# Altium footprint library 2440PCBV5_20140403.PcbLib: 142 footprints (part 5 of 9)
Each footprint in its own frame and in the unit in brackets; x right, y up, seen from the top. Pads: shape width x height; smd on the part's side, far side on the other; paste and mask are expansions set on the pad; w line width, h text height; cw(c..) or ccw(c..) is an arc to the next point about the centre after c.
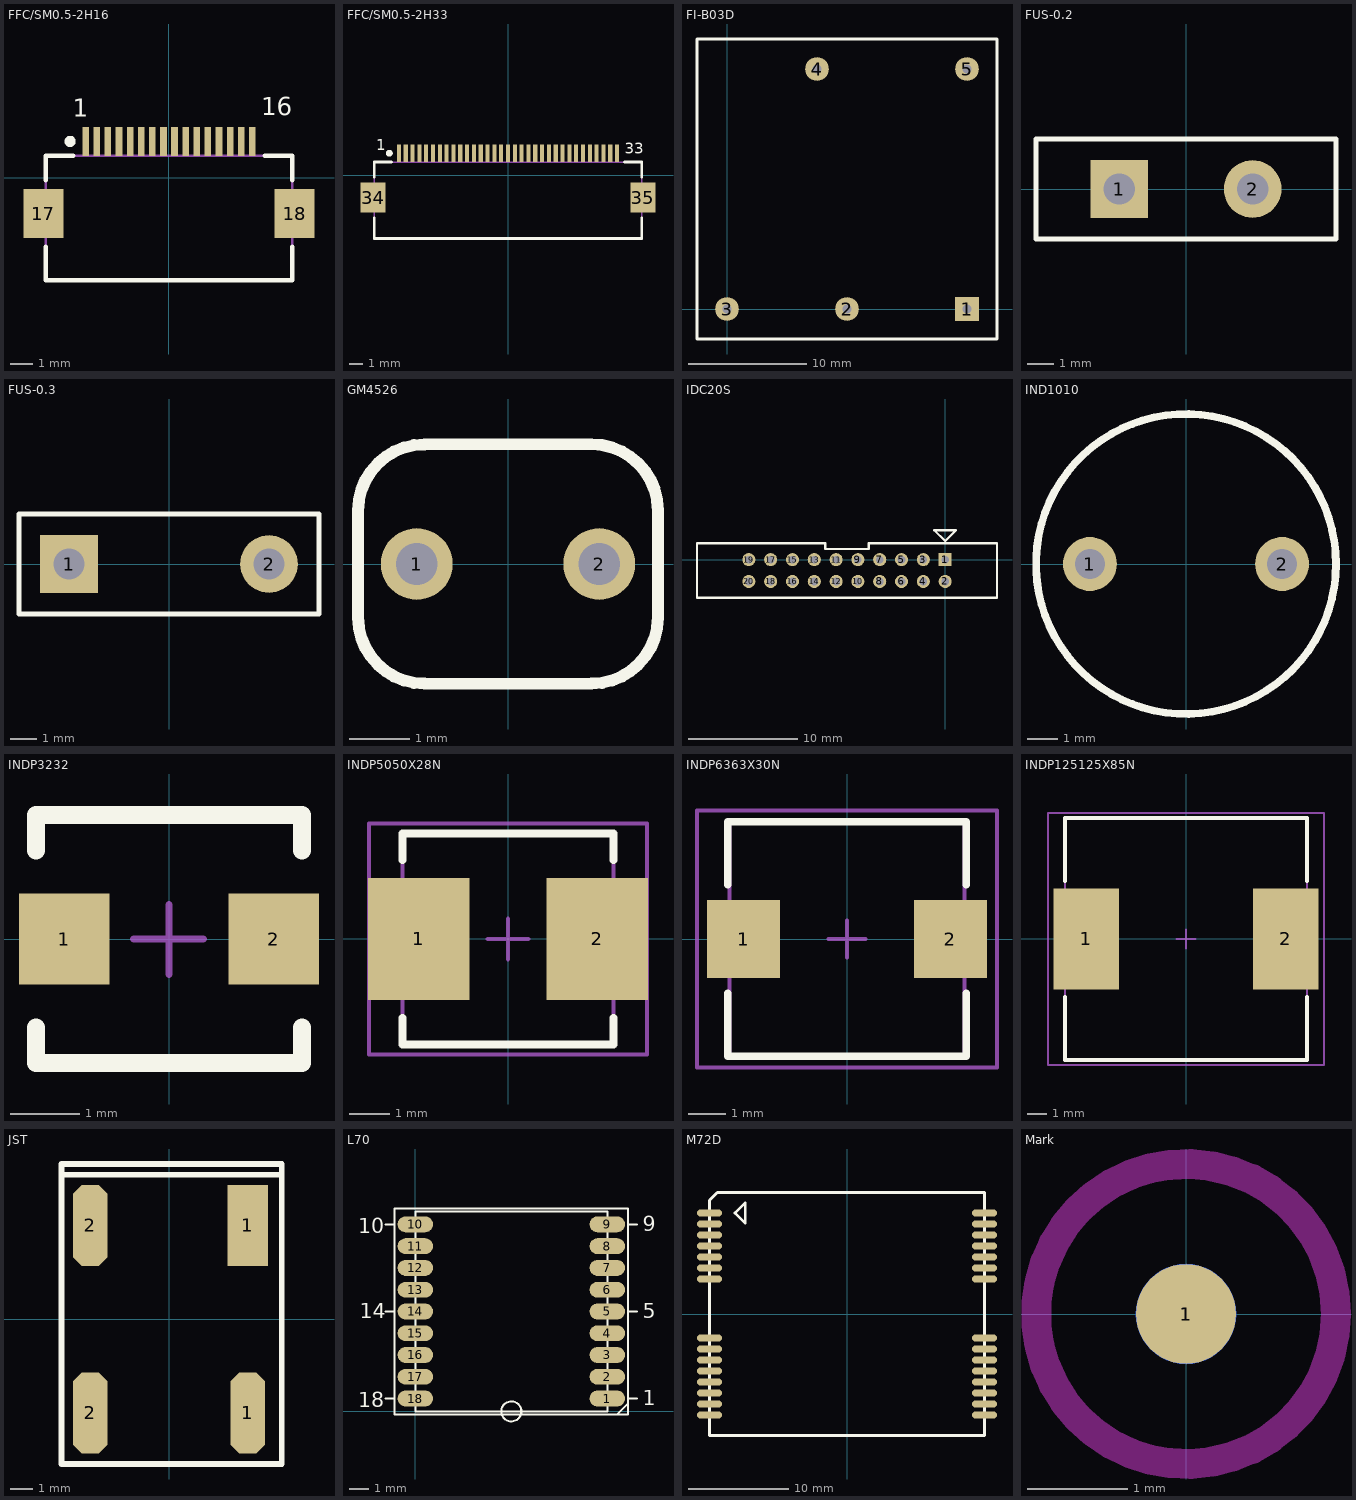
[diagram p4: the footprints below, top view; thin cyan lines are the x and y axes]

## FFC/SM0.5-2H16 [mm]
height 2
pads (18):
  rect 0.3x1.3 smd: 1(-3.75,1.625) 2(-3.25,1.625) 3(-2.75,1.625) 4(-2.25,1.625) 5(-1.75,1.625) 6(-1.25,1.625) 7(-0.75,1.625) 8(-0.25,1.625) 9(0.25,1.625) 10(0.75,1.625) 11(1.25,1.625) 12(1.75,1.625) 13(2.25,1.625) 14(2.75,1.625) 15(3.25,1.625) 16(3.75,1.625)
  rect 1.8x2.2 smd: 17(-5.65,-1.625) 18(5.65,-1.625)
Top Overlay:
  circle w0.25: c-4.45,1.625 r0.125
  lines w0.2: -5.55,-3.125 -5.55,-4.625 5.55,-4.625 5.55,-3.125 ; -5.55,-0.125 -5.55,0.975 -4.3,0.975 ; 4.3,0.975 5.55,0.975 5.55,-0.125
  text "16" at 4.154,2.79 h0.8
  text "1" at -4.329,2.739 h0.8
Mechanical 13:
  lines w0.1: -5.55,-4.625 -5.55,0.975 5.55,0.975 5.55,-4.625 -5.55,-4.625
3D body: height 2, standoff 0, extent -5.55,-4.625 5.55,0.975

## FFC/SM0.5-2H33 [mm]
height 2
pads (35):
  rect 0.3x1.3 smd: 1(-8,1.625) 2(-7.5,1.625) 3(-7,1.625) 4(-6.5,1.625) 5(-6,1.625) 6(-5.5,1.625) 7(-5,1.625) 8(-4.5,1.625) 9(-4,1.625) 10(-3.5,1.625) 11(-3,1.625) 12(-2.5,1.625) 13(-2,1.625) 14(-1.5,1.625) 15(-1,1.625) 16(-0.5,1.625) 17(0,1.625) 18(0.5,1.625) 19(1,1.625) 20(1.5,1.625) 21(2,1.625) 22(2.5,1.625) 23(3,1.625) 24(3.5,1.625) 25(4,1.625) 26(4.5,1.625) 27(5,1.625) 28(5.5,1.625) 29(6,1.625) 30(6.5,1.625) 31(7,1.625) 32(7.5,1.625) 33(8,1.625)
  rect 1.8x2.2 smd: 34(-9.9,-1.625) 35(9.9,-1.625)
Top Overlay:
  circle w0.25: c-8.7,1.625 r0.125
  lines w0.2: -9.8,-3.125 -9.8,-4.625 9.8,-4.625 9.8,-3.125 ; -9.8,-0.125 -9.8,0.975 -8.55,0.975 ; 8.55,0.975 9.8,0.975 9.8,-0.125
  text "33" at 8.568,1.571 h0.8
  text "1" at -9.643,1.825 h0.8
Mechanical 13:
  lines w0.1: -9.8,-4.625 -9.8,0.975 9.8,0.975 9.8,-4.625 -9.8,-4.625
3D body: height 2, standoff 0, extent -9.8,-4.625 9.8,0.975

## FI-B03D [mm]
height 0.305
pads (5):
  rect 2x2 hole 0.762: 1(20.32,0)
  round 2 hole 0.762: 2(10.16,0) 3(0,0) 4(7.62,20.32) 5(20.32,20.32)
Top Overlay:
  lines w0.254: -2.54,-2.54 22.86,-2.54 22.86,22.86 -2.54,22.86 -2.54,-2.54

## FUS-0.2 [mm]
pads (2):
  rect 2.2x2.2 hole 1.2: 1(-2.54,0)
  round 2.2 hole 1.2: 2(2.54,0)
Top Overlay:
  lines w0.2: -5.715,-1.905 -5.715,1.905 5.715,1.905 5.715,-1.905 -5.715,-1.905

## FUS-0.3 [mm]
pads (2):
  rect 2.2x2.2 hole 1.2: 1(-3.81,0)
  round 2.2 hole 1.2: 2(3.81,0)
Top Overlay:
  lines w0.2: -5.715,-1.905 -5.715,1.905 5.715,1.905 5.715,-1.905 -5.715,-1.905

## GM4526 [mm]
pads (2):
  round 1.2 hole 0.7: 1(-1.524,0) 2(1.524,0)
Top Overlay:
  lines w0.2: -1.397,-2 1.397,-2 ; -1.397,-1.997 cw(c-1.397,-0.889) -2.505,-0.889 -2.505,0.889 cw(c-1.397,0.889) -1.397,1.997 ; -1.397,2 1.397,2 cw(c1.397,0.892) 2.505,0.892 2.505,-0.889 cw(c1.397,-0.889) 1.397,-1.997

## IDC20S [mm]
pads (20):
  rect 1.2x1.2 hole 0.7: 1(0.002,0.017)
  round 1.2 hole 0.7: 2(0.002,-1.983) 3(-1.998,0.017) 4(-1.998,-1.983) 5(-3.998,0.017) 6(-3.998,-1.983) 7(-5.998,0.017) 8(-5.998,-1.983) 9(-7.998,0.017) 10(-7.998,-1.983) 11(-9.998,0.017) 12(-9.998,-1.983) 13(-11.998,0.017) 14(-11.998,-1.983) 15(-13.998,0.017) 16(-13.998,-1.983) 17(-15.998,0.017) 18(-15.998,-1.983) 19(-17.998,0.017) 20(-17.998,-1.983)
Top Overlay:
  lines w0.2: -22.748,-3.483 -22.748,1.517 -10.998,1.517 -10.998,0.992 -6.998,0.992 -6.998,1.517 4.752,1.517 4.752,-3.483 -22.748,-3.483 ; -0.998,2.717 0.002,1.717 1.002,2.717 -0.998,2.717
3D body: height 0, standoff 0, extent -18.856,-2.841 0.86,0.875

## IND1010 [mm]
pads (2):
  round 1.8 hole 1: 1(-3.201,0) 2(3.202,0)
Top Overlay:
  circle w0.254: c0,0 r5
3D body: height 13.5, standoff 3.5, extent -5.01,-5.01 5.01,5.01

## INDP3232 [mm]
height 12
pads (2):
  rect 1.3x1.3 smd: 1(-1.5,0) 2(1.5,0)
Top Overlay:
  lines w0.254: -1.905,-1.27 -1.905,-1.778 1.905,-1.778 1.905,-1.27 ; -1.905,1.27 -1.905,1.778 1.905,1.778 1.905,1.27
Mechanical 15:
  lines w0.1: -0.508,0 0.492,0 ; 0,-0.508 0,0.492
3D body: height 2, standoff 0, extent -2.152,-2.176 2.2,2.176

## INDP5050X28N [mm]
pads (2):
  rect 2.5x3 smd: 1(-2.2,0) 2(2.2,0)
Top Overlay:
  lines w0.2: -2.6,-1.95 -2.6,-2.6 2.6,-2.6 2.6,-1.95 ; -2.6,1.95 -2.6,2.6 2.6,2.6 2.6,1.95
Mechanical 13:
  lines w0.1: -2.6,-2.6 -2.6,2.6 2.6,2.6 2.6,-2.6 -2.6,-2.6
Mechanical 15:
  lines w0.1: -0.5,0 0.5,0 ; 0,-0.5 0,0.5 ; -3.425,-2.85 -3.425,2.85 3.425,2.85 3.425,-2.85 -3.425,-2.85
3D body: height 2, standoff 0, extent -1.565,-1.533 1.512,1.544

## INDP6363X30N [mm] "Precision Wire Wound Inductor, 2-Leads, Body 6.3x6.3mm, IPC Medium Density"
height 3
pads (2):
  rect 1.95x2.1 smd: 1(-2.775,0) 2(2.775,0)
Top Overlay:
  lines w0.2: -3.2,-1.45 -3.2,-3.15 3.2,-3.15 3.2,-1.45 ; -3.2,1.45 -3.2,3.15 3.2,3.15 3.2,1.45
Mechanical 13:
  lines w0.1: -3.15,-3.15 -3.15,3.15 3.15,3.15 3.15,-3.15 -3.15,-3.15
Mechanical 15:
  lines w0.1: -0.5,0 0.5,0 ; 0,-0.5 0,0.5 ; -4.025,-3.45 -4.025,3.45 4.025,3.45 4.025,-3.45 -4.025,-3.45
3D body: height 3, standoff 0, extent -3.15,-3.15 3.15,3.15

## INDP125125X85N [mm]
pads (2):
  rect 3.4x5.2 smd: 1(-5.15,0) 2(5.15,0)
Top Overlay:
  lines w0.2: -6.25,-3 -6.25,-6.25 6.25,-6.25 6.25,-3 ; -6.25,3 -6.25,6.25 6.25,6.25 6.25,3
Mechanical 13:
  lines w0.1: -6.25,-6.25 -6.25,6.25 6.25,6.25 6.25,-6.25 -6.25,-6.25
Mechanical 15:
  lines w0.1: -0.5,0 0.5,0 ; 0,-0.5 0,0.5 ; -7.125,-6.5 -7.125,6.5 7.125,6.5 7.125,-6.5 -7.125,-6.5
3D body: height 5.5, standoff -0.64, extent -6.114,-6.13 6.186,6.17

## JST [mm]
pads (4):
  oct 1.524x3.6 smd: 1(3.5,-4.161) 2(-3.5,-4.161) 2(-3.5,4.161)
  rect 1.8x3.6 smd: 1(3.5,4.161)
Top Overlay:
  lines w0.254: -4.751,6.406 4.999,6.406 ; 4.952,-6.425 -4.769,-6.425 -4.769,6.889 4.952,6.889 ; 4.999,-6.425 4.999,6.889
3D body: height 1.27, standoff 0, extent -4.845,-6.407 4.992,6.953

## L70 [mm]
pads (18):
  oval 1.8x0.8 smd: 1(9.7,0.65) 2(9.7,1.75) 3(9.7,2.85) 4(9.7,3.95) 5(9.7,5.05) 6(9.7,6.15) 7(9.7,7.25) 8(9.7,8.35) 9(9.7,9.45) 10(0,9.45) 11(0,8.35) 12(0,7.25) 13(0,6.15) 14(0,5.05) 15(0,3.95) 16(0,2.85) 17(0,1.75) 18(0,0.65)
Top Overlay:
  circle w0.102: c4.85,0 r0.508
  lines w0.102: -1.5,0.65 -1.05,0.65 ; -1.5,5.05 -1.05,5.05 ; -1.5,9.45 -1.05,9.45 ; 10.2,-0.15 10.75,0.4 ; 10.75,0.65 11.2,0.65 ; 10.75,5.05 11.2,5.05 ; 10.75,9.45 11.2,9.45 ; -1.05,-0.15 10.75,-0.15 10.75,10.25 -1.05,10.25 -1.05,-0.15 ; 0,0 9.7,0 9.7,10.1 0,10.1 0,0
  text "1" at 11.5,0.3 h0.76
  text "5" at 11.5,4.7 h0.76
  text "9" at 11.5,9.1 h0.76
  text "10" at -2.9,9 h0.76
  text "14" at -2.8,4.7 h0.76
  text "18" at -2.9,0.2 h0.76

## M72D [mm]
pads (30):
  oval 2.5x0.7 smd: 1(-13.75,10.1) 2(-13.75,9) 3(-13.75,7.9) 4(-13.75,6.8) 5(-13.75,5.7) 6(-13.75,4.6) 7(-13.75,3.5) 8(-13.75,-2.4) 9(-13.75,-3.5) 10(-13.75,-4.6) 11(-13.75,-5.7) 12(-13.75,-6.8) 13(-13.75,-7.9) 14(-13.75,-9) 15(-13.75,-10.1) 16(13.75,-10.1) 17(13.75,-9) 18(13.75,-7.9) 19(13.75,-6.8) 20(13.75,-5.7) 21(13.75,-4.6) 22(13.75,-3.5) 23(13.75,-2.4) 24(13.75,3.5) 25(13.75,4.6) 26(13.75,5.7) 27(13.75,6.8) 28(13.75,7.9) 29(13.75,9) 30(13.75,10.1)
Top Overlay:
  lines w0.254: -11.21,10.1 -10.194,11.116 -10.194,9.084 -11.21,10.1
  lines w0.3: -13.75,-12.15 -13.75,11.37 -12.97,12.15 -12.843,12.15 13.75,12.15 13.75,-12.15 -13.75,-12.15

## Mark [mm]
height 0.55
pads (2):
  round 1 smd paste+0 mask+1: 1(0,0)
  round 1 smd far side paste+0 mask+1: 1(0,0)
Keep-Out Layer:
  circle w0.3: c0,0 r1.5